# EAGLE library part QUECTEL-M95 (library X893)
M95 M95A M95 Hardware Design <http://www.quectel.com/UploadImage/Downlad/M95_Hardware_Design_V1.3.pdf>
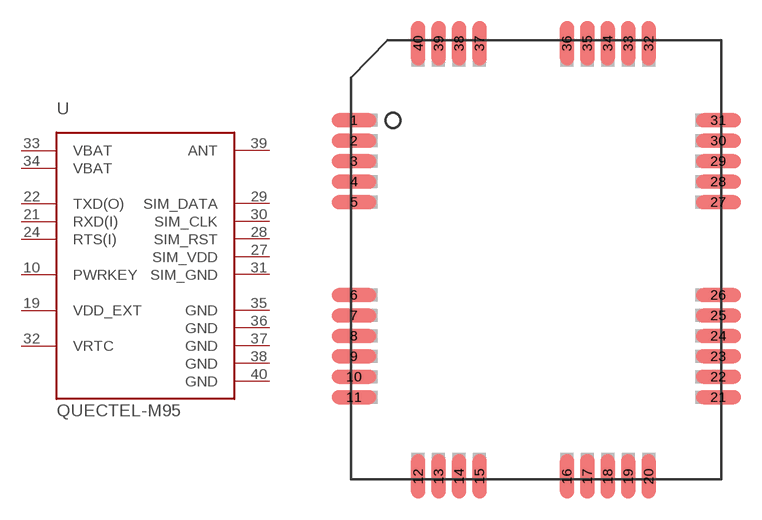
[diagram p216: symbol with the pads of QUECTEL-M95; footprint QUECTEL-M95]

Designator prefix U

## QUECTEL-M95  [QUECTEL-M95]
10  PWRKEY  pas
19  VDD_EXT  pas
21  RXD(I)  in
22  TXD(O)  out
24  RTS(I)  in
27  SIM_VDD  pas
28  SIM_RST  out
29  SIM_DATA
30  SIM_CLK  out
31  SIM_GND  pas
32  VRTC  pas
33  VBAT  pas
34  VBAT  pas
35  GND  pwr
36  GND  pwr
37  GND  pwr
38  GND  pwr
39  ANT  pas
40  GND  pwr

## Footprint QUECTEL-M95 (pad centres in mm)
M95 M95A M95 Hardware Design <http://www.quectel.com/UploadImage/Downlad/M95_Hardware_Design_V1.3.pdf>
smd 2.4 x 0.75: 1 -9.8,7.5; 2 -9.8,6.4; 3 -9.8,5.3; 4 -9.8,4.2; 5 -9.8,3.1; 6 -9.8,-1.9; 7 -9.8,-3; 8 -9.8,-4.1; 9 -9.8,-5.2; 10 -9.8,-6.3; 11 -9.8,-7.4; 21 9.8,-7.4; 22 9.8,-6.3; 23 9.8,-5.2; 24 9.8,-4.1; 25 9.8,-3; 26 9.8,-1.9; 27 9.8,3.1; 28 9.8,4.2; 29 9.8,5.3; 30 9.8,6.4; 31 9.8,7.5
smd 0.75 x 2.4: 12 -6.35,-11.65; 13 -5.25,-11.65; 14 -4.15,-11.65; 15 -3.05,-11.65; 16 1.65,-11.65; 17 2.75,-11.65; 18 3.85,-11.65; 19 4.95,-11.65; 20 6.05,-11.65; 32 6.05,11.65; 33 4.95,11.65; 34 3.85,11.65; 35 2.75,11.65; 36 1.65,11.65; 37 -3.05,11.65; 38 -4.15,11.65; 39 -5.25,11.65; 40 -6.35,11.65